# EAGLE library part MEGADRIVE (library retrode-org)
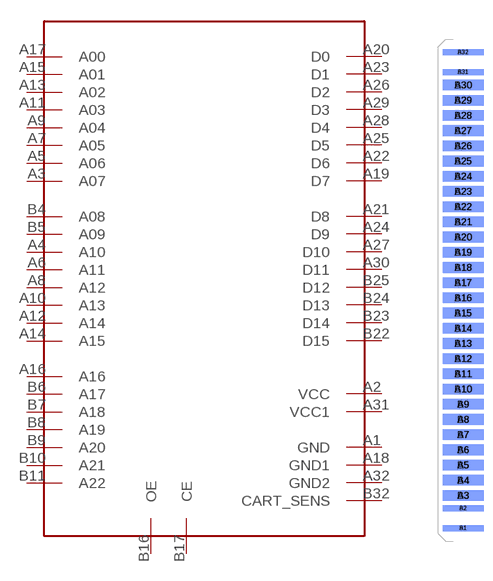
[diagram p1: symbol with the pads of MEGADRIVE_EDGE; footprint MEGADRIVE_EDGE]

Designator prefix -

## MEGADRIVECARDEDGE  [MEGADRIVE_EDGE]
A1  GND
A2  VCC
A3  A07
A4  A10
A5  A06
A6  A11
A7  A05
A8  A12
A9  A04
A10  A13
A11  A03
A12  A14
A13  A02
A14  A15
A15  A01
A16  A16
A17  A00
A18  GND1
A19  D7
A20  D0
A21  D8
A22  D6
A23  D1
A24  D9
A25  D5
A26  D2
A27  D10
A28  D4
A29  D3
A30  D11
A31  VCC1
A32  GND2
B4  A08
B5  A09
B6  A17
B7  A18
B8  A19
B9  A20
B10  A21
B11  A22
B16  OE
B17  CE
B22  D15
B23  D14
B24  D13
B25  D12
B32  CART_SENS

## Footprint MEGADRIVE_EDGE (pad centres in mm)
smd 6.858 x 1.016: A1 4.191,-39.751; A2 4.191,-36.449; A31 4.191,36.449; A32 4.191,39.751
smd 6.858 x 1.778: A3 4.191,-34.29; A4 4.191,-31.75; A5 4.191,-29.21; A6 4.191,-26.67; A7 4.191,-24.13; A8 4.191,-21.59; A9 4.191,-19.05; A10 4.191,-16.51; A11 4.191,-13.97; A12 4.191,-11.43; A13 4.191,-8.89; A14 4.191,-6.35; A15 4.191,-3.81; A16 4.191,-1.27; A17 4.191,1.27; A18 4.191,3.81; A19 4.191,6.35; A20 4.191,8.89; A21 4.191,11.43; A22 4.191,13.97; A23 4.191,16.51; A24 4.191,19.05; A25 4.191,21.59; A26 4.191,24.13; A27 4.191,26.67; A28 4.191,29.21; A29 4.191,31.75; A30 4.191,34.29
smd 6.858 x 1.016 bottom: B1 4.191,-39.751; B2 4.191,-36.449; B31 4.191,36.449; B32 4.191,39.751
smd 6.858 x 1.778 bottom: B3 4.191,-34.29; B4 4.191,-31.75; B5 4.191,-29.21; B6 4.191,-26.67; B7 4.191,-24.13; B8 4.191,-21.59; B9 4.191,-19.05; B10 4.191,-16.51; B11 4.191,-13.97; B12 4.191,-11.43; B13 4.191,-8.89; B14 4.191,-6.35; B15 4.191,-3.81; B16 4.191,-1.27; B17 4.191,1.27; B18 4.191,3.81; B19 4.191,6.35; B20 4.191,8.89; B21 4.191,11.43; B22 4.191,13.97; B23 4.191,16.51; B24 4.191,19.05; B25 4.191,21.59; B26 4.191,24.13; B27 4.191,26.67; B28 4.191,29.21; B29 4.191,31.75; B30 4.191,34.29